# Altium footprint library SN74.PcbLib: 10 footprints
Each footprint in its own frame and in the unit in brackets; x right, y up, seen from the top. Pads: shape width x height; smd on the part's side, far side on the other; paste and mask are expansions set on the pad; w line width, h text height; cw(c..) or ccw(c..) is an arc to the next point about the centre after c.
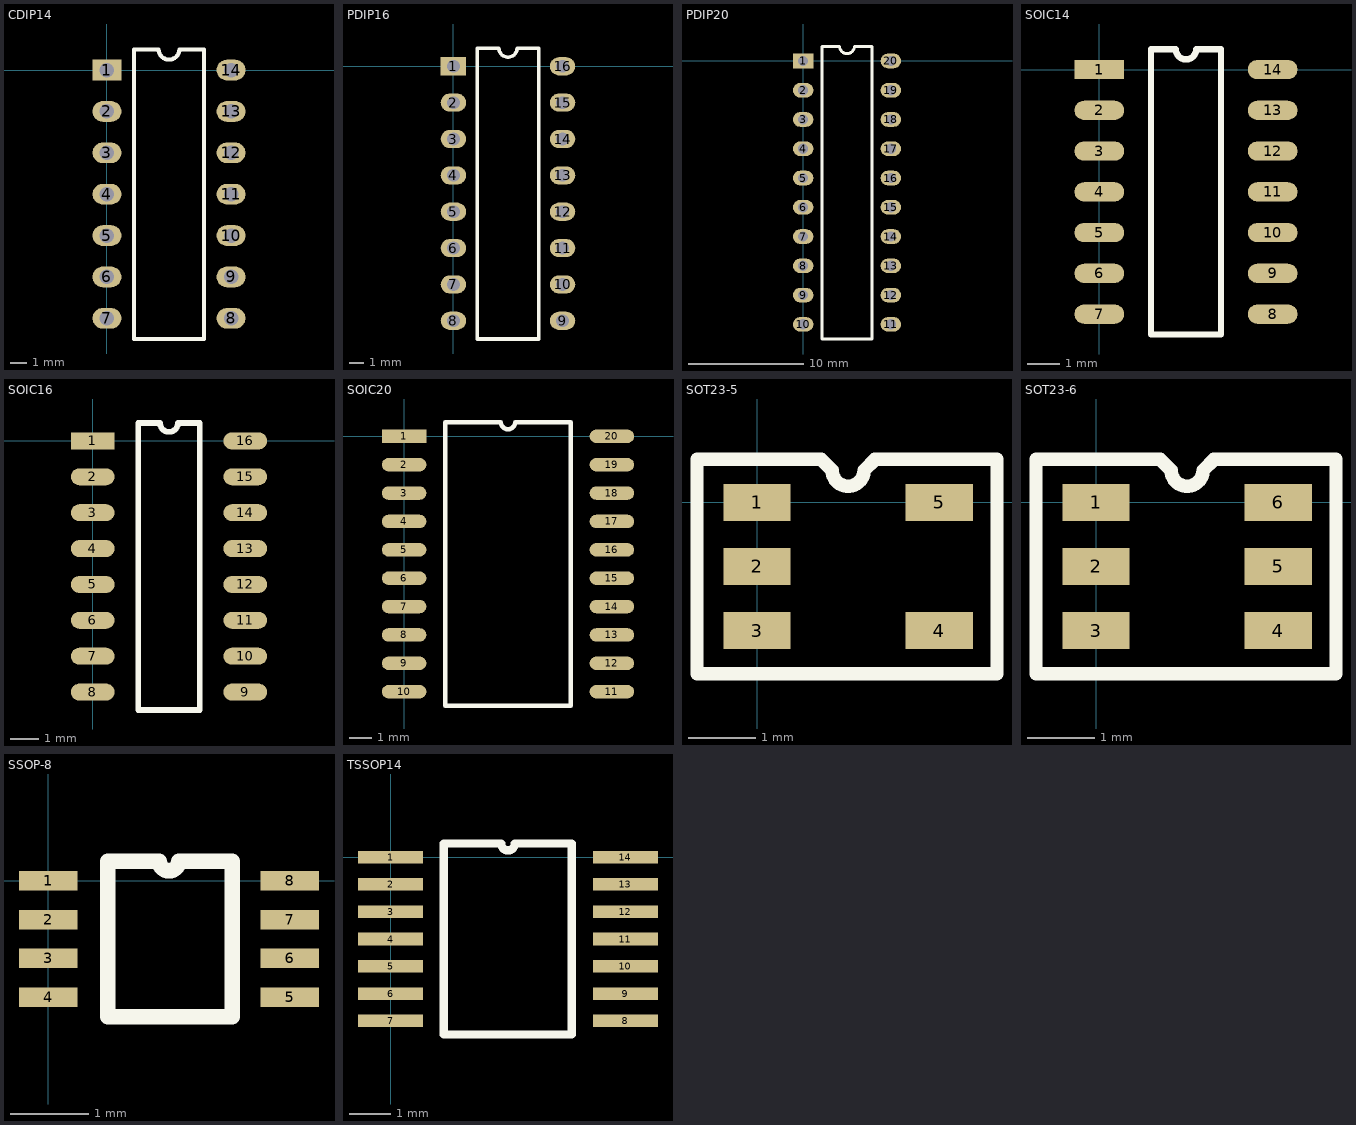
[diagram p0: the footprints below, top view; thin cyan lines are the x and y axes]

## CDIP14 [mil]
pads (14):
  rect 70x50 hole 35: 1(0,0)
  oval 70x50 hole 35: 2(0,-100) 3(0,-200) 4(0,-300) 5(0,-400) 6(0,-500) 7(0,-600) 8(300,-600) 9(300,-500) 10(300,-400) 11(300,-300) 12(300,-200) 13(300,-100) 14(300,0)
Top Overlay:
  lines w10: 65,-650 235,-650 235,50 175,50 cw(c150,50) 125,50 65,50 65,-650
3D body: height 100, standoff 15, extent 64.98,-650.02 235.02,50.02
3D body: height 50, standoff 0, extent 236.5,-12 310,12.01
3D body: height 50, standoff 0, extent 236.5,-112 310,-87.99
3D body: height 50, standoff 0, extent 236.5,-212 310,-187.99
3D body: height 50, standoff 0, extent 236.5,-312 310,-287.99
3D body: height 50, standoff 0, extent 236.5,-412 310,-387.99
3D body: height 50, standoff 0, extent 236.5,-512 310,-487.99
3D body: height 50, standoff 0, extent -10,-512.01 63.5,-488
3D body: height 50, standoff 0, extent -10,-412.01 63.5,-388
3D body: height 50, standoff 0, extent -10,-312.01 63.5,-288
3D body: height 50, standoff 0, extent -10,-212.01 63.5,-188
3D body: height 50, standoff 0, extent -10,-112.01 63.5,-88
3D body: height 50, standoff 0, extent -10,-12.01 63.5,12
3D body: height 50, standoff 0, extent -10,-612.01 63.5,-588
3D body: height 50, standoff 0, extent 236.5,-612 310,-587.99

## PDIP16 [mil]
pads (16):
  rect 70x50 hole 35: 1(0,0)
  oval 70x50 hole 35: 2(0,-100) 3(0,-200) 4(0,-300) 5(0,-400) 6(0,-500) 7(0,-600) 8(0,-700) 9(300,-700) 10(300,-600) 11(300,-500) 12(300,-400) 13(300,-300) 14(300,-200) 15(300,-100) 16(300,0)
Top Overlay:
  lines w10: 65,-750 235,-750 235,50 175,50 cw(c150,50) 125,50 65,50 65,-750
3D body: height 100, standoff 15, extent 63,-750 237,50.02
3D body: height 50, standoff 0, extent -10,-12.01 63.5,12
3D body: height 50, standoff 0, extent -10,-112.01 63.5,-88
3D body: height 50, standoff 0, extent -10,-212.01 63.5,-188
3D body: height 50, standoff 0, extent -10,-312.01 63.5,-288
3D body: height 50, standoff 0, extent -10,-412.01 63.5,-388
3D body: height 50, standoff 0, extent -10,-512.01 63.5,-488
3D body: height 50, standoff 0, extent -10,-612.01 63.5,-588
3D body: height 50, standoff 0, extent -10,-712.01 63.5,-688
3D body: height 50, standoff 0, extent 236.5,-712 310,-687.99
3D body: height 50, standoff 0, extent 236.5,-612 310,-587.99
3D body: height 50, standoff 0, extent 236.5,-512 310,-487.99
3D body: height 50, standoff 0, extent 236.5,-412 310,-387.99
3D body: height 50, standoff 0, extent 236.5,-312 310,-287.99
3D body: height 50, standoff 0, extent 236.5,-212 310,-187.99
3D body: height 50, standoff 0, extent 236.5,-112 310,-87.99
3D body: height 50, standoff 0, extent 236.5,-12 310,12.01

## PDIP20 [mil]
pads (20):
  rect 70x50 hole 35: 1(0,0)
  oval 70x50 hole 35: 2(0,-100) 3(0,-200) 4(0,-300) 5(0,-400) 6(0,-500) 7(0,-600) 8(0,-700) 9(0,-800) 10(0,-900) 11(300,-900) 12(300,-800) 13(300,-700) 14(300,-600) 15(300,-500) 16(300,-400) 17(300,-300) 18(300,-200) 19(300,-100) 20(300,0)
Top Overlay:
  lines w10: 65,-950 235,-950 235,50 175,50 cw(c150,50) 125,50 65,50 65,-950
3D body: height 100, standoff 15, extent 63,-950.02 237,50.02
3D body: height 50, standoff 0, extent -10,-12.01 63.5,12
3D body: height 50, standoff 0, extent -10,-112.01 63.5,-88
3D body: height 50, standoff 0, extent -10,-212.01 63.5,-188
3D body: height 50, standoff 0, extent -10,-312.01 63.5,-288
3D body: height 50, standoff 0, extent -10,-412.01 63.5,-388
3D body: height 50, standoff 0, extent -10,-512.01 63.5,-488
3D body: height 50, standoff 0, extent -10,-612.01 63.5,-588
3D body: height 50, standoff 0, extent -10,-712.01 63.5,-688
3D body: height 50, standoff 0, extent -10,-812.01 63.5,-788
3D body: height 50, standoff 0, extent -10,-912.01 63.5,-888
3D body: height 50, standoff 0, extent 236.5,-912 310,-887.99
3D body: height 50, standoff 0, extent 236.5,-812 310,-787.99
3D body: height 50, standoff 0, extent 236.5,-712 310,-687.99
3D body: height 50, standoff 0, extent 236.5,-612 310,-587.99
3D body: height 50, standoff 0, extent 236.5,-512 310,-487.99
3D body: height 50, standoff 0, extent 236.5,-412 310,-387.99
3D body: height 50, standoff 0, extent 236.5,-312 310,-287.99
3D body: height 50, standoff 0, extent 236.5,-212 310,-187.99
3D body: height 50, standoff 0, extent 236.5,-112 310,-87.99
3D body: height 50, standoff 0, extent 236.5,-12 310,12.01

## SOIC14 [mm]
pads (14):
  rect 1.55x0.6 smd: 1(0,0)
  oval 1.55x0.6 smd: 2(0,-1.27) 3(0,-2.54) 4(0,-3.81) 5(0,-5.08) 6(0,-6.35) 7(0,-7.62) 8(5.4,-7.62) 9(5.4,-6.35) 10(5.4,-5.08) 11(5.4,-3.81) 12(5.4,-2.54) 13(5.4,-1.27) 14(5.4,0)
Top Overlay:
  lines w0.2: 1.61,-8.255 1.61,0.635 2.382,0.635 ccw(c2.7,0.635) 3.017,0.635 3.79,0.635 3.79,-8.255 1.61,-8.255
3D body: height 0.51, standoff 0, extent 3.749,-0.254 5.842,0.254
3D body: height 0.51, standoff 0, extent 3.749,-1.524 5.842,-1.016
3D body: height 0.51, standoff 0, extent 3.749,-2.794 5.842,-2.286
3D body: height 0.51, standoff 0, extent 3.749,-4.064 5.842,-3.556
3D body: height 0.51, standoff 0, extent 3.749,-5.334 5.842,-4.826
3D body: height 0.51, standoff 0, extent 3.749,-6.604 5.842,-6.096
3D body: height 0.51, standoff 0, extent 3.749,-7.874 5.842,-7.366
3D body: height 0.51, standoff 0, extent -0.442,-7.874 1.651,-7.366
3D body: height 0.51, standoff 0, extent -0.442,-6.604 1.651,-6.096
3D body: height 0.51, standoff 0, extent -0.442,-5.334 1.651,-4.826
3D body: height 0.51, standoff 0, extent -0.442,-4.064 1.651,-3.556
3D body: height 0.51, standoff 0, extent -0.442,-2.794 1.651,-2.286
3D body: height 0.51, standoff 0, extent -0.442,-1.524 1.651,-1.016
3D body: height 0.51, standoff 0, extent -0.442,-0.254 1.651,0.254
3D body: height 1.75, standoff 0, extent 1.609,-8.256 3.791,0.636

## SOIC16 [mm]
pads (16):
  rect 1.55x0.6 smd: 1(0,0)
  oval 1.55x0.6 smd: 2(0,-1.27) 3(0,-2.54) 4(0,-3.81) 5(0,-5.08) 6(0,-6.35) 7(0,-7.62) 8(0,-8.89) 9(5.4,-8.89) 10(5.4,-7.62) 11(5.4,-6.35) 12(5.4,-5.08) 13(5.4,-3.81) 14(5.4,-2.54) 15(5.4,-1.27) 16(5.4,0)
Top Overlay:
  lines w0.2: 1.61,-9.525 1.61,0.635 2.382,0.635 ccw(c2.7,0.635) 3.017,0.635 3.79,0.635 3.79,-9.525 1.61,-9.525
3D body: height 0.51, standoff 0, extent 3.749,-9.144 5.842,-8.636
3D body: height 0.51, standoff 0, extent -0.442,-9.144 1.651,-8.636
3D body: height 1.75, standoff 0, extent 1.609,-9.525 3.791,0.636
3D body: height 0.51, standoff 0, extent -0.442,-0.254 1.651,0.254
3D body: height 0.51, standoff 0, extent -0.442,-1.524 1.651,-1.016
3D body: height 0.51, standoff 0, extent -0.442,-2.794 1.651,-2.286
3D body: height 0.51, standoff 0, extent -0.442,-4.064 1.651,-3.556
3D body: height 0.51, standoff 0, extent -0.442,-5.334 1.651,-4.826
3D body: height 0.51, standoff 0, extent -0.442,-6.604 1.651,-6.096
3D body: height 0.51, standoff 0, extent -0.442,-7.874 1.651,-7.366
3D body: height 0.51, standoff 0, extent 3.749,-7.874 5.842,-7.366
3D body: height 0.51, standoff 0, extent 3.749,-6.604 5.842,-6.096
3D body: height 0.51, standoff 0, extent 3.749,-5.334 5.842,-4.826
3D body: height 0.51, standoff 0, extent 3.749,-4.064 5.842,-3.556
3D body: height 0.51, standoff 0, extent 3.749,-2.794 5.842,-2.286
3D body: height 0.51, standoff 0, extent 3.749,-1.524 5.842,-1.016
3D body: height 0.51, standoff 0, extent 3.749,-0.254 5.842,0.254

## SOIC20 [mm]
pads (20):
  rect 2x0.6 smd: 1(0,0)
  oval 2x0.6 smd: 2(0,-1.27) 3(0,-2.54) 4(0,-3.81) 5(0,-5.08) 6(0,-6.35) 7(0,-7.62) 8(0,-8.89) 9(0,-10.16) 10(0,-11.43) 11(9.3,-11.43) 12(9.3,-10.16) 13(9.3,-8.89) 14(9.3,-7.62) 15(9.3,-6.35) 16(9.3,-5.08) 17(9.3,-3.81) 18(9.3,-2.54) 19(9.3,-1.27) 20(9.3,0)
Top Overlay:
  lines w0.2: 1.835,-12.065 1.835,0.635 4.332,0.635 ccw(c4.65,0.635) 4.967,0.635 7.465,0.635 7.465,-12.065 1.835,-12.065
3D body: height 0.51, standoff 0, extent 7.522,-0.254 9.742,0.254
3D body: height 0.51, standoff 0, extent 7.522,-1.524 9.742,-1.016
3D body: height 0.51, standoff 0, extent 7.522,-2.794 9.742,-2.286
3D body: height 0.51, standoff 0, extent 7.522,-4.064 9.742,-3.556
3D body: height 0.51, standoff 0, extent 7.522,-5.334 9.742,-4.826
3D body: height 0.51, standoff 0, extent 7.522,-6.604 9.742,-6.096
3D body: height 0.51, standoff 0, extent 7.522,-7.874 9.742,-7.366
3D body: height 0.51, standoff 0, extent 7.522,-9.144 9.742,-8.636
3D body: height 0.51, standoff 0, extent 7.522,-10.414 9.742,-9.906
3D body: height 0.51, standoff 0, extent 7.522,-11.684 9.742,-11.176
3D body: height 0.51, standoff 0, extent -0.442,-11.684 1.778,-11.176
3D body: height 0.51, standoff 0, extent -0.442,-10.414 1.778,-9.906
3D body: height 0.51, standoff 0, extent -0.442,-9.144 1.778,-8.636
3D body: height 0.51, standoff 0, extent -0.442,-7.874 1.778,-7.366
3D body: height 0.51, standoff 0, extent -0.442,-6.604 1.778,-6.096
3D body: height 0.51, standoff 0, extent -0.442,-5.334 1.778,-4.826
3D body: height 0.51, standoff 0, extent -0.442,-4.064 1.778,-3.556
3D body: height 0.51, standoff 0, extent -0.442,-2.794 1.778,-2.286
3D body: height 0.51, standoff 0, extent -0.442,-1.524 1.778,-1.016
3D body: height 0.51, standoff 0, extent -0.442,-0.254 1.778,0.254
3D body: height 1.75, standoff 0, extent 1.834,-12.066 7.466,0.636

## SOT23-5 [mm]
pads (5):
  rect 1x0.55 smd: 1(0,0) 2(0,-0.95) 3(0,-1.9) 4(2.7,-1.9) 5(2.7,0)
Top Overlay:
  lines w0.2: -0.889,-2.54 3.556,-2.54 3.556,0.635 1.747,0.635 1.587,0.475 cw(c1.35,0.475) 1.112,0.475 0.953,0.635 -0.889,0.635 -0.889,-2.54
3D body: height 0.4, standoff 0, extent 2.459,-0.254 3.183,0.254
3D body: height 0.4, standoff 0, extent 2.459,-2.154 3.183,-1.646
3D body: height 0.4, standoff 0, extent -0.483,-2.154 0.241,-1.646
3D body: height 0.4, standoff 0, extent -0.483,-1.204 0.241,-0.696
3D body: height 0.4, standoff 0, extent -0.483,-0.254 0.241,0.254
3D body: height 1.3, standoff 0, extent 0.254,-2.277 2.413,0.377

## SOT23-6 [mm]
pads (6):
  rect 1x0.55 smd: 1(0,0) 2(0,-0.95) 3(0,-1.9) 4(2.7,-1.9) 5(2.7,-0.95) 6(2.7,0)
Top Overlay:
  lines w0.2: -0.889,-2.54 3.556,-2.54 3.556,0.635 1.747,0.635 1.587,0.475 cw(c1.35,0.475) 1.112,0.475 0.953,0.635 -0.889,0.635 -0.889,-2.54
3D body: height 0.4, standoff 0, extent 2.459,-1.204 3.183,-0.696
3D body: height 0.4, standoff 0, extent 2.459,-0.254 3.183,0.254
3D body: height 0.4, standoff 0, extent 2.459,-2.154 3.183,-1.646
3D body: height 0.4, standoff 0, extent -0.483,-2.154 0.241,-1.646
3D body: height 0.4, standoff 0, extent -0.483,-1.204 0.241,-0.696
3D body: height 0.4, standoff 0, extent -0.483,-0.254 0.241,0.254
3D body: height 1.3, standoff 0, extent 0.267,-2.241 2.426,0.412

## SSOP-8 [mm]
pads (8):
  rect 0.75x0.25 smd: 1(0,0) 2(0,-0.5) 3(0,-1) 4(0,-1.5) 5(3.1,-1.5) 6(3.1,-1) 7(3.1,-0.5) 8(3.1,0)
Top Overlay:
  lines w0.2: 0.762,-1.75 0.762,0.25 1.425,0.25 ccw(c1.55,0.25) 1.675,0.25 2.362,0.25 2.362,-1.75 0.762,-1.75
3D body: height 0.2, standoff 0, extent 2.313,-1.678 3.227,-1.348
3D body: height 0.2, standoff 0, extent 2.313,-1.178 3.227,-0.848
3D body: height 0.2, standoff 0, extent 2.313,-0.678 3.227,-0.348
3D body: height 0.2, standoff 0, extent -0.127,-1.652 0.787,-1.322
3D body: height 0.2, standoff 0, extent -0.127,-1.152 0.787,-0.822
3D body: height 0.2, standoff 0, extent -0.127,-0.652 0.787,-0.322
3D body: height 0.2, standoff 0, extent 2.313,-0.178 3.227,0.152
3D body: height 0.6, standoff 0, extent 0.761,-1.751 2.363,0.251
3D body: height 0.2, standoff 0, extent -0.127,-0.152 0.787,0.178

## TSSOP14 [mm]
pads (14):
  rect 1.55x0.3 smd: 1(0,0) 2(0,-0.65) 3(0,-1.3) 4(0,-1.95) 5(0,-2.6) 6(0,-3.25) 7(0,-3.9) 8(5.6,-3.9) 9(5.6,-3.25) 10(5.6,-2.6) 11(5.6,-1.95) 12(5.6,-1.3) 13(5.6,-0.65) 14(5.6,0)
Top Overlay:
  lines w0.2: 1.27,-4.225 1.27,0.325 2.638,0.325 ccw(c2.8,0.325) 2.962,0.325 4.318,0.325 4.318,-4.225 1.27,-4.225
3D body: height 0.51, standoff 0, extent -0.496,-0.127 1.282,0.127
3D body: height 0.51, standoff 0, extent -0.496,-0.777 1.282,-0.523
3D body: height 0.51, standoff 0, extent -0.496,-1.427 1.282,-1.173
3D body: height 0.51, standoff 0, extent -0.496,-2.077 1.282,-1.823
3D body: height 0.51, standoff 0, extent -0.496,-2.727 1.282,-2.473
3D body: height 0.51, standoff 0, extent -0.496,-3.377 1.282,-3.123
3D body: height 0.51, standoff 0, extent -0.496,-4.027 1.282,-3.773
3D body: height 0.51, standoff 0, extent 4.318,-4.027 6.096,-3.773
3D body: height 0.51, standoff 0, extent 4.318,-3.377 6.096,-3.123
3D body: height 0.51, standoff 0, extent 4.318,-2.727 6.096,-2.473
3D body: height 0.51, standoff 0, extent 4.318,-2.077 6.096,-1.823
3D body: height 0.51, standoff 0, extent 4.318,-1.427 6.096,-1.173
3D body: height 0.51, standoff 0, extent 4.318,-0.777 6.096,-0.523
3D body: height 0.51, standoff 0, extent 4.318,-0.127 6.096,0.127
3D body: height 1.52, standoff 0, extent 1.269,-4.226 4.319,0.326